# Altium integrated library Lab_3.IntLib: 5 symbols
Pins are listed as number, name and electrical type; pins without a type are passive.

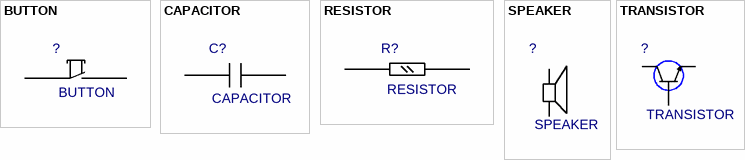
[diagram p0: symbols BUTTON to TRANSISTOR]

## BUTTON
designator ?
Value: *
footprint BUTTON
pins: 1, 2

## CAPACITOR
designator C?
Value: *
footprint CAPACITOR
pins: 1, 2

## RESISTOR
designator R?
Value: *
footprint RESISTOR
pins: 1, 2

## SPEAKER
designator ?
Value: *
footprint SPEAKER
pins: 1, 2

## TRANSISTOR
designator ?
Value: *
footprint TRANSISTOR
pins: 1, 2, 3